# EAGLE library part PC1622 (library #Potenciometry)
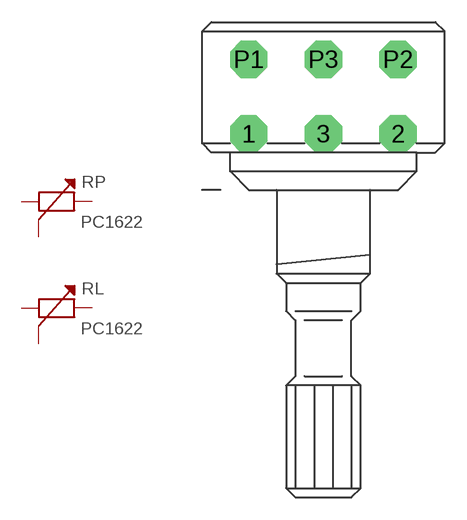
[diagram p1: symbol with the pads of PC1622; footprint PC1622]

Designator prefix R; gates L=TRIMR P=TRIMR

## PC1622  [PC1622]
1  L:1  pas
2  L:3  pas
3  L:2  pas
P1  P:1  pas
P2  P:3  pas
P3  P:2  pas

## Footprint PC1622 (pad centres in mm)
drill 1.2 pad 2.54 octagon: 1 0,0; 2 10.16,0; 3 5.08,0; P1 0,5.08; P2 10.16,5.08; P3 5.08,5.08